# EAGLE library part MSP430F11X---PW20 (library MSP430F1xxx)
MSP430F110 1KB + 128B Flash Memory 128B RAM MSP430F112 4KB + 256B Flash Memory 256B RAM Package TSSOP-20(PW20)
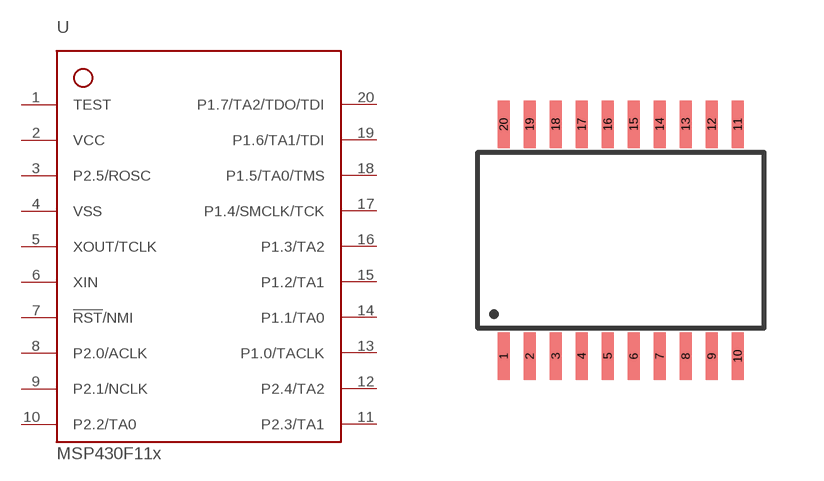
[diagram p1: symbol with the pads of PW20; footprint PW20]

Designator prefix -

## MSP430F11X---PW20  [PW20]
1  TEST  in
2  VCC  pwr
3  P2.5/ROSC
4  VSS  pwr
5  XOUT/TCLK
6  XIN  in
7  !RST!/NMI  in
8  P2.0/ACLK
9  P2.1/NCLK
10  P2.2/TA0
11  P2.3/TA1
12  P2.4/TA2
13  P1.0/TACLK
14  P1.1/TA0
15  P1.2/TA1
16  P1.3/TA2
17  P1.4/SMCLK/TCK
18  P1.5/TA0/TMS
19  P1.6/TA1/TDI
20  P1.7/TA2/TDO/TDI

## Footprint PW20 (pad centres in mm)
*** TI: PW *** JEDEC: R-PDSO-G20 *** 20 PINS ***
smd 0.3 x 1.2: 1 -2.925,-2.9; 2 -2.275,-2.9; 3 -1.625,-2.9; 4 -0.975,-2.9; 5 -0.325,-2.9; 6 0.325,-2.9; 7 0.975,-2.9; 8 1.625,-2.9; 9 2.275,-2.9; 10 2.925,-2.9; 11 2.925,2.9; 12 2.275,2.9; 13 1.625,2.9; 14 0.975,2.9; 15 0.325,2.9; 16 -0.325,2.9; 17 -0.975,2.9; 18 -1.625,2.9; 19 -2.275,2.9; 20 -2.925,2.9